# Altium integrated library TI_Logic_Little_Logic.IntLib: 1164 symbols (part 17 of 35)
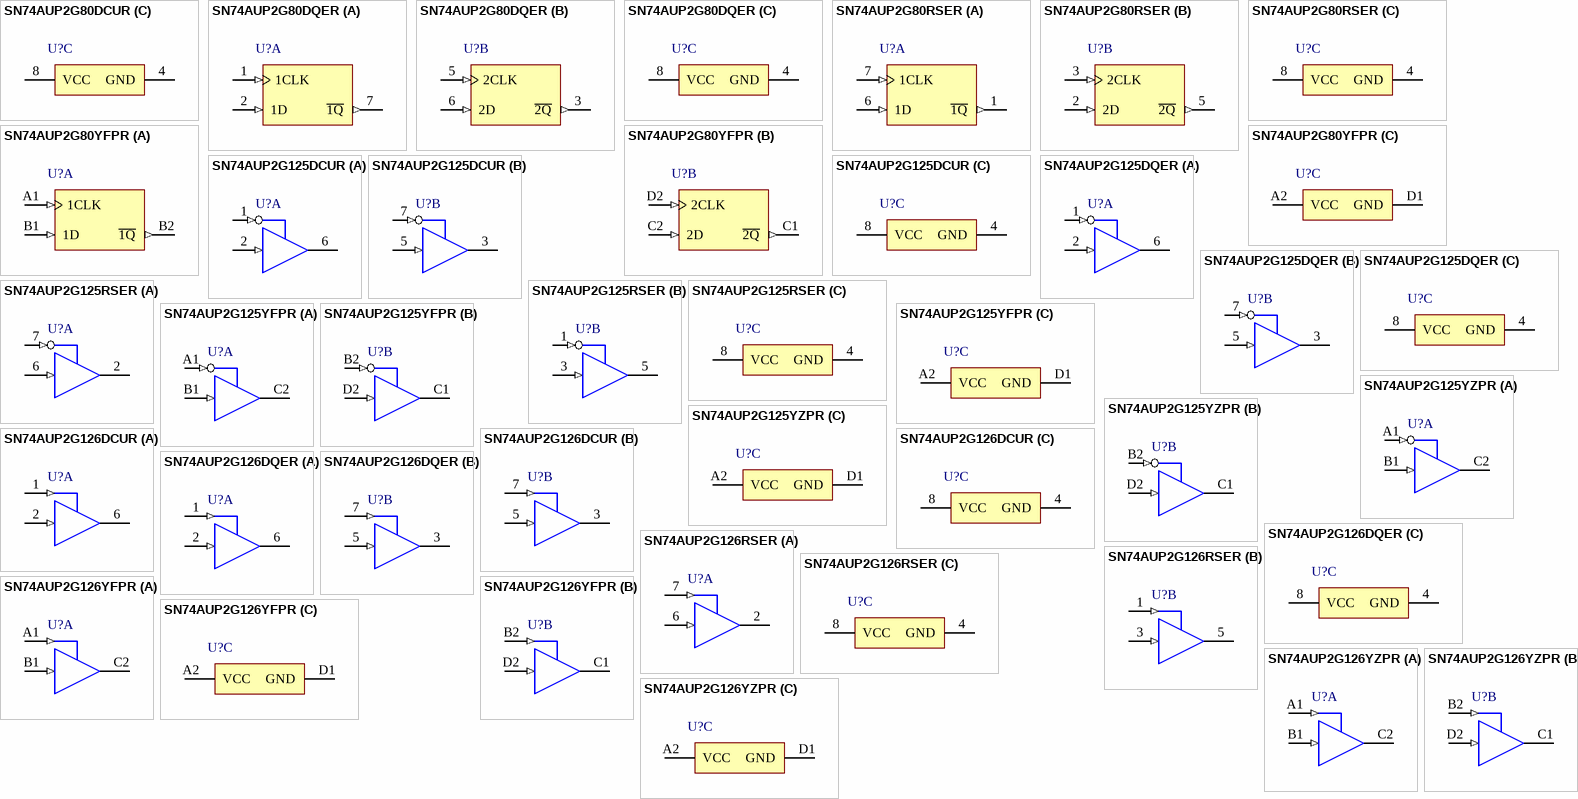
[diagram p76: symbols SN74AUP2G80DCUR to SN74AUP2G126YZPR]

## SN74AUP2G125YZPR
designator U?
Low-Power Dual Bus Buffer Gate With 3-State Outputs, YZP0008ADAD, LARGE T&R; Generic Part Number: SN74AUP2G125; Manufacturer: Texas Instruments; PartNumber: SN74AUP2G125YZPR; VCC(Min)(V): 0.8; VCC(Max)(V): 3.6; Output Type: CMOS; ICC @ Nom Voltage(Max)(mA): 0.0009; Bits(#): 2; F @ Nom Voltage(Max)(Mhz): 100; Rating: Catalog; Technology Family: AUP; Voltage(Nom)(V): 0.8,1.2,1.5,1.8,2.5,3.3; Schmitt Trigger: No; Output Drive (IOL/IOH)(Max)(mA): 20/-20; tpd @ Nom Voltage(Max)(ns): 37.9,30.2,17.2,13.0,8.3,6.5; Logic: True; Sub-Family: Non-Inverting Buffer/Driver; 3-State Output: Yes; DatasheetVersion: SCES688D; PackageReference: YZP0008ADAD; Supplier 1: Mouser; Supplier Part Number 1: 595-SN74AUP2G125YZPR; Supplier 2: Digi-Key; Supplier Part Number 2: 296-24456-2-ND; Supplier 3: Digi-Key; Supplier Part Number 3: 296-24456-1-ND; Supplier 4: Digi-Key; Supplier Part Number 4: 296-24456-6-ND; Input Type: CMOS; Operating Temperature Range(C): -40 to 85; ComponentLink1Description: Manufacturer URL; ComponentLink1URL: http://www.ti.com/; ComponentLink2Description: Datasheet; ComponentLink2URL: http://www.ti.com/lit/ds/symlink/sn74aup2g125.pdf
footprint YZP0008ADAD (BGA, 8-Balls, Body 1.89x0.89mm, Pitch 0.5mm)
part A pins: A1 1~{OE} (in) "Output Enable for buffer 1", B1 1A (in) "Input", C2 1Y (hiz) "Output"
part B pins: B2 2~{OE} (in) "Output Enable for buffer 2", C1 2Y (hiz) "Output", D2 2A (in) "Input"
part C pins: A2 VCC (power) "Power pin", D1 GND (power) "Ground"

## SN74AUP2G126DCUR
designator U?
Low-Power Dual Bus Buffer Gate With 3-State Outputs, DCU0008A, LARGE T&R; Generic Part Number: SN74AUP2G126; Manufacturer: Texas Instruments; PartNumber: SN74AUP2G126DCUR; VCC(Min)(V): 0.8; VCC(Max)(V): 3.6; Output Type: CMOS; ICC @ Nom Voltage(Max)(mA): 0.0009; Bits(#): 2; F @ Nom Voltage(Max)(Mhz): 100; Rating: Catalog; Technology Family: AUP; Voltage(Nom)(V): 0.8,1.2,1.5,1.8,2.5,3.3; Schmitt Trigger: No; Output Drive (IOL/IOH)(Max)(mA): 20/-20; tpd @ Nom Voltage(Max)(ns): 36.4,30.8,18,13.6,8.6,7.9; Logic: True; Sub-Family: Non-Inverting Buffer/Driver; 3-State Output: Yes; DatasheetVersion: SCES687D; PackageReference: DCU0008A; Supplier 1: Mouser; Supplier Part Number 1: 595-SN74AUP2G126DCUR; Supplier 2: Digi-Key; Supplier Part Number 2: 296-32273-2-ND; Supplier 3: Digi-Key; Supplier Part Number 3: 296-32273-1-ND; Supplier 4: Digi-Key; Supplier Part Number 4: 296-32273-6-ND; Input Type: CMOS; Operating Temperature Range(C): -40 to 85; ComponentLink1Description: Manufacturer URL; ComponentLink1URL: http://www.ti.com/; ComponentLink2Description: Datasheet; ComponentLink2URL: http://www.ti.com/lit/ds/symlink/sn74aup2g126.pdf
footprint DCU0008A_N (SOP, 8-Leads, Body 2.4x2.1mm, Pitch 0.5mm, IPC Medium Density)
footprint DCU0008A_M (SOP, 8-Leads, Body 2.4x2.1mm, Pitch 0.5mm, IPC Low Density)
footprint DCU0008A_L (SOP, 8-Leads, Body 2.4x2.1mm, Pitch 0.5mm, IPC High Density)
part A pins: 1 1OE (in), 2 1A (in), 6 1Y (hiz)
part B pins: 3 2Y (hiz), 5 2A (in), 7 2OE (in)
part C pins: 4 GND (power) "Ground Pin", 8 VCC (power) "Power Pin"

## SN74AUP2G126DQER
designator U?
Low-Power Dual Bus Buffer Gate With 3-State Outputs, DQE0008A, LARGE T&R; Generic Part Number: SN74AUP2G126; Manufacturer: Texas Instruments; PartNumber: SN74AUP2G126DQER; VCC(Min)(V): 0.8; VCC(Max)(V): 3.6; Output Type: CMOS; ICC @ Nom Voltage(Max)(mA): 0.0009; Bits(#): 2; F @ Nom Voltage(Max)(Mhz): 100; Rating: Catalog; Technology Family: AUP; Voltage(Nom)(V): 0.8,1.2,1.5,1.8,2.5,3.3; Schmitt Trigger: No; Output Drive (IOL/IOH)(Max)(mA): 20/-20; tpd @ Nom Voltage(Max)(ns): 36.4,30.8,18,13.6,8.6,7.9; Logic: True; Sub-Family: Non-Inverting Buffer/Driver; 3-State Output: Yes; DatasheetVersion: SCES687D; PackageReference: DQE0008A; Supplier 1: Mouser; Supplier Part Number 1: 595-SN74AUP2G126DQER; Supplier 2: Digi-Key; Supplier Part Number 2: 296-25639-2-ND; Supplier 3: Digi-Key; Supplier Part Number 3: 296-25639-1-ND; Supplier 4: Digi-Key; Supplier Part Number 4: 296-25639-6-ND; Input Type: CMOS; Operating Temperature Range(C): -40 to 85; ComponentLink1Description: Manufacturer URL; ComponentLink1URL: http://www.ti.com/; ComponentLink2Description: Datasheet; ComponentLink2URL: http://www.ti.com/lit/ds/symlink/sn74aup2g126.pdf
footprint DQE0008A_V (SON, 8-Leads, Body 1.4x1mm, Pitch 0.35mm, TI Recommend)
part A pins: 1 1OE (in), 2 1A (in), 6 1Y (hiz)
part B pins: 3 2Y (hiz), 5 2A (in), 7 2OE (in)
part C pins: 4 GND (power) "Ground Pin", 8 VCC (power) "Power Pin"

## SN74AUP2G126RSER
designator U?
Low-Power Dual Bus Buffer Gate With 3-State Outputs, RSE0008A, LARGE T&R; Generic Part Number: SN74AUP2G126; Manufacturer: Texas Instruments; PartNumber: SN74AUP2G126RSER; VCC(Min)(V): 0.8; VCC(Max)(V): 3.6; Output Type: CMOS; ICC @ Nom Voltage(Max)(mA): 0.0009; Bits(#): 2; F @ Nom Voltage(Max)(Mhz): 100; Rating: Catalog; Technology Family: AUP; Voltage(Nom)(V): 0.8,1.2,1.5,1.8,2.5,3.3; Schmitt Trigger: No; Output Drive (IOL/IOH)(Max)(mA): 20/-20; tpd @ Nom Voltage(Max)(ns): 36.4,30.8,18,13.6,8.6,7.9; Logic: True; Sub-Family: Non-Inverting Buffer/Driver; 3-State Output: Yes; DatasheetVersion: SCES687D; PackageReference: RSE0008A; Supplier 1: Mouser; Supplier Part Number 1: 595-SN74AUP2G126RSER; Supplier 2: Digi-Key; Supplier Part Number 2: 296-27495-2-ND; Supplier 3: Digi-Key; Supplier Part Number 3: 296-27495-1-ND; Supplier 4: Digi-Key; Supplier Part Number 4: 296-27495-6-ND; Input Type: CMOS; Operating Temperature Range(C): -40 to 85; ComponentLink1Description: Manufacturer URL; ComponentLink1URL: http://www.ti.com/; ComponentLink2Description: Datasheet; ComponentLink2URL: http://www.ti.com/lit/ds/symlink/sn74aup2g126.pdf
footprint RSE0008A_V (QFN, 8-Leads, Body 1.5x1.5mm, Pitch 0.5mm, TI Recommend)
part A pins: 2 1Y (hiz), 6 1A (in), 7 1OE (in)
part B pins: 1 2OE (in), 3 2A (in), 5 2Y (hiz)
part C pins: 4 GND (power), 8 VCC (power)

## SN74AUP2G126YFPR
designator U?
Low-Power Dual Bus Buffer Gate With 3-State Outputs, YZP0008AAAA, LARGE T&R; Generic Part Number: SN74AUP2G126; Manufacturer: Texas Instruments; PartNumber: SN74AUP2G126YFPR; VCC(Min)(V): 0.8; VCC(Max)(V): 3.6; Output Type: CMOS; ICC @ Nom Voltage(Max)(mA): 0.0009; Bits(#): 2; F @ Nom Voltage(Max)(Mhz): 100; Rating: Catalog; Technology Family: AUP; Voltage(Nom)(V): 0.8,1.2,1.5,1.8,2.5,3.3; Schmitt Trigger: No; Output Drive (IOL/IOH)(Max)(mA): 20/-20; tpd @ Nom Voltage(Max)(ns): 36.4,30.8,18,13.6,8.6,7.9; Logic: True; Sub-Family: Non-Inverting Buffer/Driver; 3-State Output: Yes; DatasheetVersion: SCES687D; PackageReference: YZP0008AAAA; Supplier 1: Mouser; Supplier Part Number 1: 595-SN74AUP2G126YFPR; Supplier 2: Digi-Key; Supplier Part Number 2: 296-24737-2-ND; Supplier 3: Digi-Key; Supplier Part Number 3: 296-24737-1-ND; Supplier 4: Digi-Key; Supplier Part Number 4: 296-24737-6-ND; Input Type: CMOS; Operating Temperature Range(C): -40 to 85; ComponentLink1Description: Manufacturer URL; ComponentLink1URL: http://www.ti.com/; ComponentLink2Description: Datasheet; ComponentLink2URL: http://www.ti.com/lit/ds/symlink/sn74aup2g126.pdf
footprint YZP0008AAAA (BGA, 8-Balls, Body 1.56x0.76mm, Pitch 0.4mm)
part A pins: A1 1OE (in) "1OE Enable/Input", B1 1A (in) "1A Input", C2 1Y (hiz) "1Y Output"
part B pins: B2 2OE (in) "2OE Enable/Input", C1 2Y (hiz) "2Y Output", D2 2A (in) "2A Input"
part C pins: A2 VCC (power) "Power Pin", D1 GND (power) "Ground Pin"

## SN74AUP2G126YZPR
designator U?
Low-Power Dual Bus Buffer Gate With 3-State Outputs, YZP0008ADAD, LARGE T&R; Generic Part Number: SN74AUP2G126; Manufacturer: Texas Instruments; PartNumber: SN74AUP2G126YZPR; VCC(Min)(V): 0.8; VCC(Max)(V): 3.6; Output Type: CMOS; ICC @ Nom Voltage(Max)(mA): 0.0009; Bits(#): 2; F @ Nom Voltage(Max)(Mhz): 100; Rating: Catalog; Technology Family: AUP; Voltage(Nom)(V): 0.8,1.2,1.5,1.8,2.5,3.3; Schmitt Trigger: No; Output Drive (IOL/IOH)(Max)(mA): 20/-20; tpd @ Nom Voltage(Max)(ns): 36.4,30.8,18,13.6,8.6,7.9; Logic: True; Sub-Family: Non-Inverting Buffer/Driver; 3-State Output: Yes; DatasheetVersion: SCES687D; PackageReference: YZP0008ADAD; Supplier 1: Mouser; Supplier Part Number 1: 595-SN74AUP2G126YZPR; Supplier 2: Digi-Key; Supplier Part Number 2: 296-24738-2-ND; Supplier 3: Digi-Key; Supplier Part Number 3: 296-24738-1-ND; Supplier 4: Digi-Key; Supplier Part Number 4: 296-24738-6-ND; Input Type: CMOS; Operating Temperature Range(C): -40 to 85; ComponentLink1Description: Manufacturer URL; ComponentLink1URL: http://www.ti.com/; ComponentLink2Description: Datasheet; ComponentLink2URL: http://www.ti.com/lit/ds/symlink/sn74aup2g126.pdf
footprint YZP0008ADAD (BGA, 8-Balls, Body 1.89x0.89mm, Pitch 0.5mm)
part A pins: A1 1OE (in) "1OE Enable/Input", B1 1A (in) "1A Input", C2 1Y (hiz) "1Y Output"
part B pins: B2 2OE (in) "2OE Enable/Input", C1 2Y (hiz) "2Y Output", D2 2A (in) "2A Input"
part C pins: A2 VCC (power) "Power Pin", D1 GND (power) "Ground Pin"

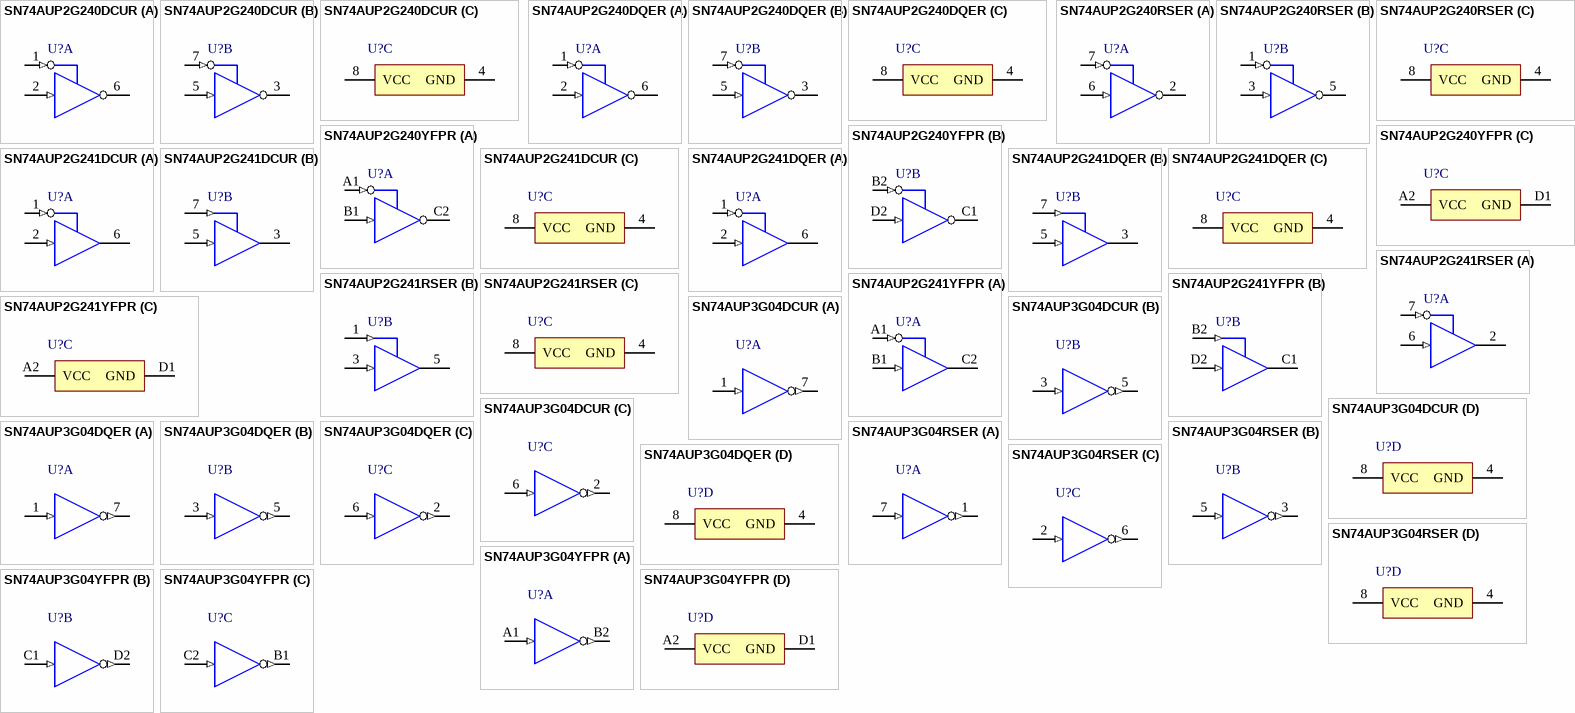
[diagram p28: symbols SN74AUP2G240DCUR to SN74AUP3G04YFPR]

## SN74AUP2G240DCUR
designator U?
Low-Power Dual Buffer/Driver With 3-State Outputs, DCU0008A, LARGE T&R; Generic Part Number: SN74AUP2G240; Manufacturer: Texas Instruments; PartNumber: SN74AUP2G240DCUR; VCC(Min)(V): 0.8; VCC(Max)(V): 3.6; Output Type: CMOS; ICC @ Nom Voltage(Max)(mA): 0.0009; Bits(#): 2; F @ Nom Voltage(Max)(Mhz): 100; Rating: Catalog; Technology Family: AUP; Voltage(Nom)(V): 0.8,1.2,1.5,1.8,2.5,3.3; Schmitt Trigger: No; Output Drive (IOL/IOH)(Max)(mA): 20/-20; tpd @ Nom Voltage(Max)(ns): 32.8,20.9,14.2,11,7.6,6.2; Logic: Inverting; Sub-Family: Inverting Buffer/Driver; 3-State Output: Yes; DatasheetVersion: SCES760B; PackageReference: DCU0008A; Supplier 1: Mouser; Supplier Part Number 1: 595-SN74AUP2G240DCUR; Supplier 2: Digi-Key; Supplier Part Number 2: 296-25593-2-ND; Supplier 3: Digi-Key; Supplier Part Number 3: 296-25593-1-ND; Supplier 4: Digi-Key; Supplier Part Number 4: 296-25593-6-ND; Input Type: CMOS; Operating Temperature Range(C): -40 to 85; ComponentLink1Description: Manufacturer URL; ComponentLink1URL: http://www.ti.com/; ComponentLink2Description: Datasheet; ComponentLink2URL: http://www.ti.com/lit/ds/symlink/sn74aup2g240.pdf
footprint DCU0008A_N (SOP, 8-Leads, Body 2.4x2.1mm, Pitch 0.5mm, IPC Medium Density)
footprint DCU0008A_M (SOP, 8-Leads, Body 2.4x2.1mm, Pitch 0.5mm, IPC Low Density)
footprint DCU0008A_L (SOP, 8-Leads, Body 2.4x2.1mm, Pitch 0.5mm, IPC High Density)
part A pins: 1 1~{OE} (in), 2 1A (in), 6 1Y (hiz)
part B pins: 3 2Y (hiz), 5 2A (in), 7 2~{OE} (in)
part C pins: 4 GND (power), 8 VCC (power)

## SN74AUP2G240DQER
designator U?
Low-Power Dual Buffer/Driver With 3-State Outputs, DQE0008A, LARGE T&R; Generic Part Number: SN74AUP2G240; Manufacturer: Texas Instruments; PartNumber: SN74AUP2G240DQER; VCC(Min)(V): 0.8; VCC(Max)(V): 3.6; Output Type: CMOS; ICC @ Nom Voltage(Max)(mA): 0.0009; Bits(#): 2; F @ Nom Voltage(Max)(Mhz): 100; Rating: Catalog; Technology Family: AUP; Voltage(Nom)(V): 0.8,1.2,1.5,1.8,2.5,3.3; Schmitt Trigger: No; Output Drive (IOL/IOH)(Max)(mA): 20/-20; tpd @ Nom Voltage(Max)(ns): 32.8,20.9,14.2,11,7.6,6.2; Logic: Inverting; Sub-Family: Inverting Buffer/Driver; 3-State Output: Yes; DatasheetVersion: SCES760B; PackageReference: DQE0008A; Supplier 1: Mouser; Supplier Part Number 1: 595-SN74AUP2G240DQER; Supplier 2: Digi-Key; Supplier Part Number 2: 296-25881-2-ND; Supplier 3: Digi-Key; Supplier Part Number 3: 296-25881-1-ND; Supplier 4: Digi-Key; Supplier Part Number 4: 296-25881-6-ND; Input Type: CMOS; Operating Temperature Range(C): -40 to 85; ComponentLink1Description: Manufacturer URL; ComponentLink1URL: http://www.ti.com/; ComponentLink2Description: Datasheet; ComponentLink2URL: http://www.ti.com/lit/ds/symlink/sn74aup2g240.pdf
footprint DQE0008A_V (SON, 8-Leads, Body 1.4x1mm, Pitch 0.35mm, TI Recommend)
part A pins: 1 1~{OE} (in), 2 1A (in), 6 1Y (hiz)
part B pins: 3 2Y (hiz), 5 2A (in), 7 2~{OE} (in)
part C pins: 4 GND (power), 8 VCC (power)

## SN74AUP2G240RSER
designator U?
Low-Power Dual Buffer/Driver With 3-State Outputs, RSE0008A, LARGE T&R; Generic Part Number: SN74AUP2G240; Manufacturer: Texas Instruments; PartNumber: SN74AUP2G240RSER; VCC(Min)(V): 0.8; VCC(Max)(V): 3.6; Output Type: CMOS; ICC @ Nom Voltage(Max)(mA): 0.0009; Bits(#): 2; F @ Nom Voltage(Max)(Mhz): 100; Rating: Catalog; Technology Family: AUP; Voltage(Nom)(V): 0.8,1.2,1.5,1.8,2.5,3.3; Schmitt Trigger: No; Output Drive (IOL/IOH)(Max)(mA): 20/-20; tpd @ Nom Voltage(Max)(ns): 32.8,20.9,14.2,11,7.6,6.2; Logic: Inverting; Sub-Family: Inverting Buffer/Driver; 3-State Output: Yes; DatasheetVersion: SCES760B; PackageReference: RSE0008A; Supplier 1: Mouser; Supplier Part Number 1: 595-SN74AUP2G240RSER; Supplier 2: Digi-Key; Supplier Part Number 2: 296-27367-2-ND; Supplier 3: Digi-Key; Supplier Part Number 3: 296-27367-1-ND; Supplier 4: Digi-Key; Supplier Part Number 4: 296-27367-6-ND; Input Type: CMOS; Operating Temperature Range(C): -40 to 85; ComponentLink1Description: Manufacturer URL; ComponentLink1URL: http://www.ti.com/; ComponentLink2Description: Datasheet; ComponentLink2URL: http://www.ti.com/lit/ds/symlink/sn74aup2g240.pdf
footprint RSE0008A_V (QFN, 8-Leads, Body 1.5x1.5mm, Pitch 0.5mm, TI Recommend)
part A pins: 2 1Y (hiz), 6 1A (in), 7 1~{OE} (in)
part B pins: 1 2~{OE} (in), 3 2A (in), 5 2Y (hiz)
part C pins: 4 GND (power), 8 VCC (power)

## SN74AUP2G240YFPR
designator U?
Low-Power Dual Buffer/Driver With 3-State Outputs, YZP0008AAAA, LARGE T&R; Generic Part Number: SN74AUP2G240; Manufacturer: Texas Instruments; PartNumber: SN74AUP2G240YFPR; VCC(Min)(V): 0.8; VCC(Max)(V): 3.6; Output Type: CMOS; ICC @ Nom Voltage(Max)(mA): 0.0009; Bits(#): 2; F @ Nom Voltage(Max)(Mhz): 100; Rating: Catalog; Technology Family: AUP; Voltage(Nom)(V): 0.8,1.2,1.5,1.8,2.5,3.3; Schmitt Trigger: No; Output Drive (IOL/IOH)(Max)(mA): 20/-20; tpd @ Nom Voltage(Max)(ns): 32.8,20.9,14.2,11,7.6,6.2; Logic: Inverting; Sub-Family: Inverting Buffer/Driver; 3-State Output: Yes; DatasheetVersion: SCES760B; PackageReference: YZP0008AAAA; Supplier 1: Mouser; Supplier Part Number 1: 595-SN74AUP2G240YFPR; Supplier 2: Digi-Key; Supplier Part Number 2: 296-25871-2-ND; Supplier 3: Digi-Key; Supplier Part Number 3: 296-25871-1-ND; Supplier 4: Digi-Key; Supplier Part Number 4: 296-25871-6-ND; Input Type: CMOS; Operating Temperature Range(C): -40 to 85; ComponentLink1Description: Manufacturer URL; ComponentLink1URL: http://www.ti.com/; ComponentLink2Description: Datasheet; ComponentLink2URL: http://www.ti.com/lit/ds/symlink/sn74aup2g240.pdf
footprint YZP0008AAAA (BGA, 8-Balls, Body 1.56x0.76mm, Pitch 0.4mm)
part A pins: A1 1~{OE} (in), B1 1A (in), C2 1Y (hiz)
part B pins: B2 2~{OE} (in), C1 2Y (hiz), D2 2A (in)
part C pins: A2 VCC (power), D1 GND (power)

## SN74AUP2G241DCUR
designator U?
Low-Power Dual Buffer/Driver With 3-State Outputs, DCU0008A, LARGE T&R; Generic Part Number: SN74AUP2G241; Manufacturer: Texas Instruments; PartNumber: SN74AUP2G241DCUR; VCC(Min)(V): 0.8; VCC(Max)(V): 3.6; Output Type: CMOS; ICC @ Nom Voltage(Max)(mA): 0.0009; Bits(#): 2; F @ Nom Voltage(Max)(Mhz): 100; Rating: Catalog; Technology Family: AUP; Voltage(Nom)(V): 0.8,1.2,1.5,1.8,2.5,3.3; Schmitt Trigger: No; Output Drive (IOL/IOH)(Max)(mA): 20/-20; tpd @ Nom Voltage(Max)(ns): 36.4,30.8,18,13.6,8.6,7.9; Logic: True; Sub-Family: Non-Inverting Buffer/Driver; 3-State Output: Yes; DatasheetVersion: SCES761B; PackageReference: DCU0008A; Supplier 1: Mouser; Supplier Part Number 1: 595-SN74AUP2G241DCUR; Supplier 2: Digi-Key; Supplier Part Number 2: 296-25597-2-ND; Supplier 3: Digi-Key; Supplier Part Number 3: 296-25597-1-ND; Supplier 4: Digi-Key; Supplier Part Number 4: 296-25597-6-ND; Input Type: CMOS; Operating Temperature Range(C): -40 to 85; ComponentLink1Description: Manufacturer URL; ComponentLink1URL: http://www.ti.com/; ComponentLink2Description: Datasheet; ComponentLink2URL: http://www.ti.com/lit/ds/symlink/sn74aup2g241.pdf
footprint DCU0008A_N (SOP, 8-Leads, Body 2.4x2.1mm, Pitch 0.5mm, IPC Medium Density)
footprint DCU0008A_M (SOP, 8-Leads, Body 2.4x2.1mm, Pitch 0.5mm, IPC Low Density)
footprint DCU0008A_L (SOP, 8-Leads, Body 2.4x2.1mm, Pitch 0.5mm, IPC High Density)
part A pins: 1 1~{OE} (in), 2 1A (in), 6 1Y (hiz)
part B pins: 3 2Y (hiz), 5 2A (in), 7 2OE (in)
part C pins: 4 GND (power), 8 VCC (power)

## SN74AUP2G241DQER
designator U?
Low-Power Dual Buffer/Driver With 3-State Outputs, DQE0008A, LARGE T&R; Generic Part Number: SN74AUP2G241; Manufacturer: Texas Instruments; PartNumber: SN74AUP2G241DQER; VCC(Min)(V): 0.8; VCC(Max)(V): 3.6; Output Type: CMOS; ICC @ Nom Voltage(Max)(mA): 0.0009; Bits(#): 2; F @ Nom Voltage(Max)(Mhz): 100; Rating: Catalog; Technology Family: AUP; Voltage(Nom)(V): 0.8,1.2,1.5,1.8,2.5,3.3; Schmitt Trigger: No; Output Drive (IOL/IOH)(Max)(mA): 20/-20; tpd @ Nom Voltage(Max)(ns): 36.4,30.8,18,13.6,8.6,7.9; Logic: True; Sub-Family: Non-Inverting Buffer/Driver; 3-State Output: Yes; DatasheetVersion: SCES761B; PackageReference: DQE0008A; Supplier 1: Mouser; Supplier Part Number 1: 595-SN74AUP2G241DQER; Supplier 2: Digi-Key; Supplier Part Number 2: 296-32274-2-ND; Supplier 3: Digi-Key; Supplier Part Number 3: 296-32274-1-ND; Supplier 4: Digi-Key; Supplier Part Number 4: 296-32274-6-ND; Input Type: CMOS; Operating Temperature Range(C): -40 to 85; ComponentLink1Description: Manufacturer URL; ComponentLink1URL: http://www.ti.com/; ComponentLink2Description: Datasheet; ComponentLink2URL: http://www.ti.com/lit/ds/symlink/sn74aup2g241.pdf
footprint DQE0008A_V (SON, 8-Leads, Body 1.4x1mm, Pitch 0.35mm, TI Recommend)
part A pins: 1 1~{OE} (in), 2 1A (in), 6 1Y (hiz)
part B pins: 3 2Y (hiz), 5 2A (in), 7 2OE (in)
part C pins: 4 GND (power), 8 VCC (power)

## SN74AUP2G241RSER
designator U?
Low-Power Dual Buffer/Driver With 3-State Outputs, RSE0008A, LARGE T&R; Generic Part Number: SN74AUP2G241; Manufacturer: Texas Instruments; PartNumber: SN74AUP2G241RSER; VCC(Min)(V): 0.8; VCC(Max)(V): 3.6; Output Type: CMOS; ICC @ Nom Voltage(Max)(mA): 0.0009; Bits(#): 2; F @ Nom Voltage(Max)(Mhz): 100; Rating: Catalog; Technology Family: AUP; Voltage(Nom)(V): 0.8,1.2,1.5,1.8,2.5,3.3; Schmitt Trigger: No; Output Drive (IOL/IOH)(Max)(mA): 20/-20; tpd @ Nom Voltage(Max)(ns): 36.4,30.8,18,13.6,8.6,7.9; Logic: True; Sub-Family: Non-Inverting Buffer/Driver; 3-State Output: Yes; DatasheetVersion: SCES761B; PackageReference: RSE0008A; Supplier 1: Mouser; Supplier Part Number 1: 595-SN74AUP2G241RSER; Supplier 2: Digi-Key; Supplier Part Number 2: 296-27368-2-ND; Supplier 3: Digi-Key; Supplier Part Number 3: 296-27368-1-ND; Supplier 4: Digi-Key; Supplier Part Number 4: 296-27368-6-ND; Input Type: CMOS; Operating Temperature Range(C): -40 to 85; ComponentLink1Description: Manufacturer URL; ComponentLink1URL: http://www.ti.com/; ComponentLink2Description: Datasheet; ComponentLink2URL: http://www.ti.com/lit/ds/symlink/sn74aup2g241.pdf
footprint RSE0008A_V (QFN, 8-Leads, Body 1.5x1.5mm, Pitch 0.5mm, TI Recommend)
part A pins: 2 1Y (hiz), 6 1A (in), 7 1~{OE} (in)
part B pins: 1 2OE (in), 3 2A (in), 5 2Y (hiz)
part C pins: 4 GND (power), 8 VCC (power)

## SN74AUP2G241YFPR
designator U?
Low-Power Dual Buffer/Driver With 3-State Outputs, YZP0008AAAA, LARGE T&R; Generic Part Number: SN74AUP2G241; Manufacturer: Texas Instruments; PartNumber: SN74AUP2G241YFPR; VCC(Min)(V): 0.8; VCC(Max)(V): 3.6; Output Type: CMOS; ICC @ Nom Voltage(Max)(mA): 0.0009; Bits(#): 2; F @ Nom Voltage(Max)(Mhz): 100; Rating: Catalog; Technology Family: AUP; Voltage(Nom)(V): 0.8,1.2,1.5,1.8,2.5,3.3; Schmitt Trigger: No; Output Drive (IOL/IOH)(Max)(mA): 20/-20; tpd @ Nom Voltage(Max)(ns): 36.4,30.8,18,13.6,8.6,7.9; Logic: True; Sub-Family: Non-Inverting Buffer/Driver; 3-State Output: Yes; DatasheetVersion: SCES761B; PackageReference: YZP0008AAAA; Supplier 1: Mouser; Supplier Part Number 1: 595-SN74AUP2G241YFPR; Supplier 2: Digi-Key; Supplier Part Number 2: 296-25872-2-ND; Supplier 3: Digi-Key; Supplier Part Number 3: 296-25872-1-ND; Supplier 4: Digi-Key; Supplier Part Number 4: 296-25872-6-ND; Input Type: CMOS; Operating Temperature Range(C): -40 to 85; ComponentLink1Description: Manufacturer URL; ComponentLink1URL: http://www.ti.com/; ComponentLink2Description: Datasheet; ComponentLink2URL: http://www.ti.com/lit/ds/symlink/sn74aup2g241.pdf
footprint YZP0008AAAA (BGA, 8-Balls, Body 1.56x0.76mm, Pitch 0.4mm)
part A pins: A1 1~{OE} (in), B1 1A (in), C2 1Y (hiz)
part B pins: B2 2OE (in), C1 2Y (hiz), D2 2A (in)
part C pins: A2 VCC (power), D1 GND (power)

## SN74AUP3G04DCUR
designator U?
Low-Power Triple Inverter Gate, DCU0008A, LARGE T&R; Generic Part Number: SN74AUP3G04; Manufacturer: Texas Instruments; PartNumber: SN74AUP3G04DCUR; VCC(Min)(V): 0.8; VCC(Max)(V): 3.6; Output Type: CMOS; ICC @ Nom Voltage(Max)(mA): 0.0009; Bits(#): 3; F @ Nom Voltage(Max)(Mhz): 100; Rating: Catalog; Technology Family: AUP; Voltage(Nom)(V): 0.8,1.2,1.5,1.8,2.5,3.3; Schmitt Trigger: No; Output Drive (IOL/IOH)(Max)(mA): 20/-20; tpd @ Nom Voltage(Max)(ns): 32.8,20.9,14.2,11,7.6,6.2; Logic: Inverting; Sub-Family: Inverting Buffer/Driver; DatasheetVersion: SCES762C; PackageReference: DCU0008A; Supplier 1: Mouser; Supplier Part Number 1: 595-SN74AUP3G04DCUR; Supplier 2: Digi-Key; Supplier Part Number 2: 296-25600-2-ND; Supplier 3: Digi-Key; Supplier Part Number 3: 296-25600-1-ND; Supplier 4: Digi-Key; Supplier Part Number 4: 296-25600-6-ND; Input Type: CMOS; Operating Temperature Range(C): -40 to 85; 3-State Output: No; ComponentLink1Description: Manufacturer URL; ComponentLink1URL: http://www.ti.com/; ComponentLink2Description: Datasheet; ComponentLink2URL: http://www.ti.com/lit/ds/symlink/sn74aup3g04.pdf
footprint DCU0008A_N (SOP, 8-Leads, Body 2.4x2.1mm, Pitch 0.5mm, IPC Medium Density)
footprint DCU0008A_M (SOP, 8-Leads, Body 2.4x2.1mm, Pitch 0.5mm, IPC Low Density)
footprint DCU0008A_L (SOP, 8-Leads, Body 2.4x2.1mm, Pitch 0.5mm, IPC High Density)
part A pins: 1 1A (in), 7 1Y (out)
part B pins: 3 2A (in), 5 2Y (out)
part C pins: 2 3Y (out), 6 3A (in)
part D pins: 4 GND (power), 8 VCC (power)

## SN74AUP3G04DQER
designator U?
Low-Power Triple Inverter Gate, DQE0008A, LARGE T&R; Generic Part Number: SN74AUP3G04; Manufacturer: Texas Instruments; PartNumber: SN74AUP3G04DQER; VCC(Min)(V): 0.8; VCC(Max)(V): 3.6; Output Type: CMOS; ICC @ Nom Voltage(Max)(mA): 0.0009; Bits(#): 3; F @ Nom Voltage(Max)(Mhz): 100; Rating: Catalog; Technology Family: AUP; Voltage(Nom)(V): 0.8,1.2,1.5,1.8,2.5,3.3; Schmitt Trigger: No; Output Drive (IOL/IOH)(Max)(mA): 20/-20; tpd @ Nom Voltage(Max)(ns): 32.8,20.9,14.2,11,7.6,6.2; Logic: Inverting; Sub-Family: Inverting Buffer/Driver; DatasheetVersion: SCES762C; PackageReference: DQE0008A; Supplier 1: Mouser; Supplier Part Number 1: 595-SN74AUP3G04DQER; Supplier 2: Digi-Key; Supplier Part Number 2: 296-25621-2-ND; Supplier 3: Digi-Key; Supplier Part Number 3: 296-25621-1-ND; Supplier 4: Digi-Key; Supplier Part Number 4: 296-25621-6-ND; Input Type: CMOS; Operating Temperature Range(C): -40 to 85; 3-State Output: No; ComponentLink1Description: Manufacturer URL; ComponentLink1URL: http://www.ti.com/; ComponentLink2Description: Datasheet; ComponentLink2URL: http://www.ti.com/lit/ds/symlink/sn74aup3g04.pdf
footprint DQE0008A_V (SON, 8-Leads, Body 1.4x1mm, Pitch 0.35mm, TI Recommend)
part A pins: 1 1A (in), 7 1Y (out)
part B pins: 3 2A (in), 5 2Y (out)
part C pins: 2 3Y (out), 6 3A (in)
part D pins: 4 GND (power), 8 VCC (power)

## SN74AUP3G04RSER
designator U?
Low-Power Triple Inverter Gate, RSE0008A, LARGE T&R; Generic Part Number: SN74AUP3G04; Manufacturer: Texas Instruments; PartNumber: SN74AUP3G04RSER; VCC(Min)(V): 0.8; VCC(Max)(V): 3.6; Output Type: CMOS; ICC @ Nom Voltage(Max)(mA): 0.0009; Bits(#): 3; F @ Nom Voltage(Max)(Mhz): 100; Rating: Catalog; Technology Family: AUP; Voltage(Nom)(V): 0.8,1.2,1.5,1.8,2.5,3.3; Schmitt Trigger: No; Output Drive (IOL/IOH)(Max)(mA): 20/-20; tpd @ Nom Voltage(Max)(ns): 32.8,20.9,14.2,11,7.6,6.2; Logic: Inverting; Sub-Family: Inverting Buffer/Driver; DatasheetVersion: SCES762C; PackageReference: RSE0008A; Supplier 1: Mouser; Supplier Part Number 1: 595-SN74AUP3G04RSER; Supplier 2: Digi-Key; Supplier Part Number 2: 296-27498-2-ND; Supplier 3: Digi-Key; Supplier Part Number 3: 296-27498-1-ND; Supplier 4: Digi-Key; Supplier Part Number 4: 296-27498-6-ND; Input Type: CMOS; Operating Temperature Range(C): -40 to 85; 3-State Output: No; ComponentLink1Description: Manufacturer URL; ComponentLink1URL: http://www.ti.com/; ComponentLink2Description: Datasheet; ComponentLink2URL: http://www.ti.com/lit/ds/symlink/sn74aup3g04.pdf
footprint RSE0008A_V (QFN, 8-Leads, Body 1.5x1.5mm, Pitch 0.5mm, TI Recommend)
part A pins: 1 1Y (out), 7 1A (in)
part B pins: 3 2Y (out), 5 2A (in)
part C pins: 2 3A (in), 6 3Y (out)
part D pins: 4 GND (power), 8 VCC (power)

## SN74AUP3G04YFPR
designator U?
Low-Power Triple Inverter Gate, YZP0008AAAA, LARGE T&R; Generic Part Number: SN74AUP3G04; Manufacturer: Texas Instruments; PartNumber: SN74AUP3G04YFPR; VCC(Min)(V): 0.8; VCC(Max)(V): 3.6; Output Type: CMOS; ICC @ Nom Voltage(Max)(mA): 0.0009; Bits(#): 3; F @ Nom Voltage(Max)(Mhz): 100; Rating: Catalog; Technology Family: AUP; Voltage(Nom)(V): 0.8,1.2,1.5,1.8,2.5,3.3; Schmitt Trigger: No; Output Drive (IOL/IOH)(Max)(mA): 20/-20; tpd @ Nom Voltage(Max)(ns): 32.8,20.9,14.2,11,7.6,6.2; Logic: Inverting; Sub-Family: Inverting Buffer/Driver; DatasheetVersion: SCES762C; PackageReference: YZP0008AAAA; Supplier 1: Mouser; Supplier Part Number 1: 595-SN74AUP3G04YFPR; Supplier 2: Digi-Key; Supplier Part Number 2: 296-25876-2-ND; Supplier 3: Digi-Key; Supplier Part Number 3: 296-25876-1-ND; Supplier 4: Digi-Key; Supplier Part Number 4: 296-25876-6-ND; Input Type: CMOS; Operating Temperature Range(C): -40 to 85; 3-State Output: No; ComponentLink1Description: Manufacturer URL; ComponentLink1URL: http://www.ti.com/; ComponentLink2Description: Datasheet; ComponentLink2URL: http://www.ti.com/lit/ds/symlink/sn74aup3g04.pdf
footprint YZP0008AAAA (BGA, 8-Balls, Body 1.56x0.76mm, Pitch 0.4mm)
part A pins: A1 1A (in), B2 1Y (out)
part B pins: C1 2A (in), D2 2Y (out)
part C pins: B1 3Y (out), C2 3A (in)
part D pins: A2 VCC (power), D1 GND (power)

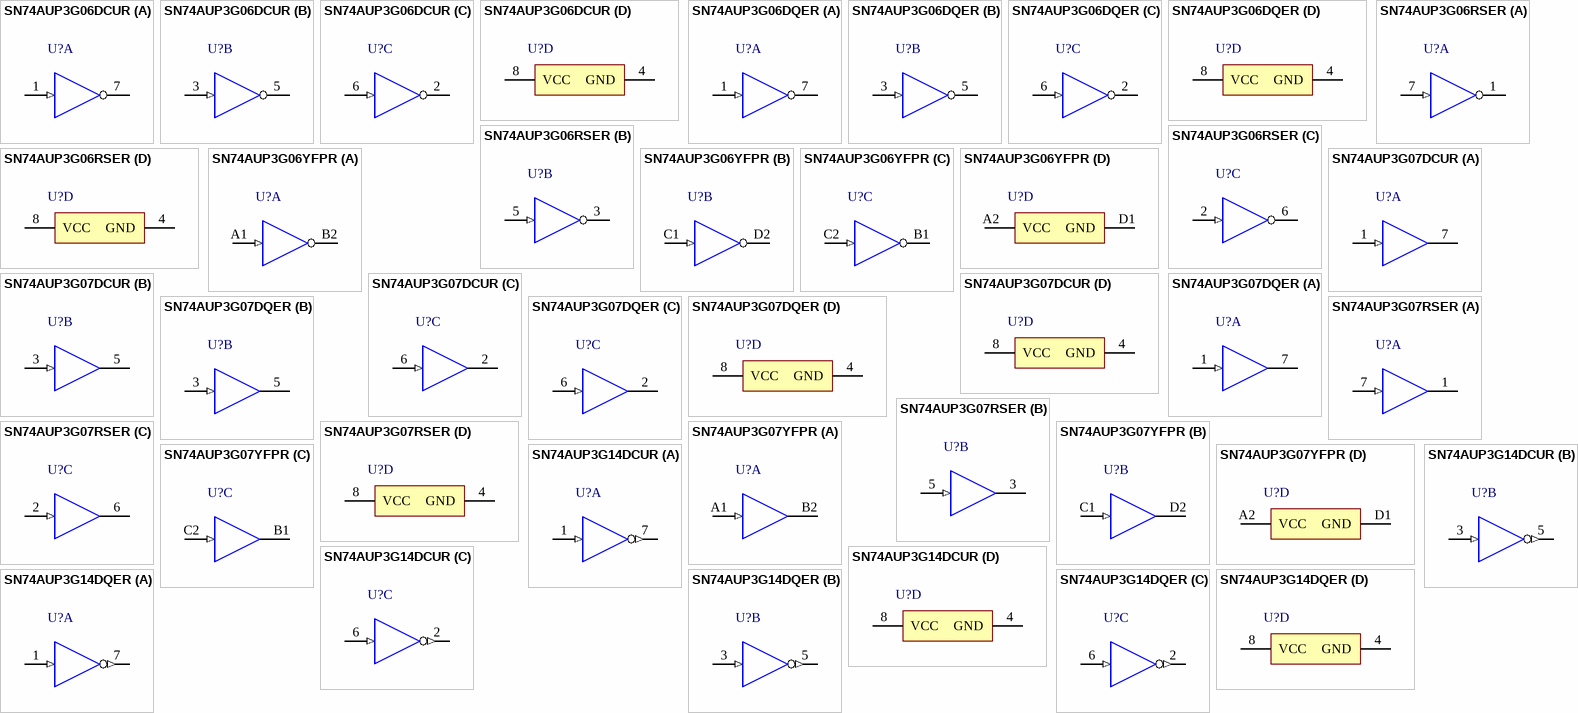
[diagram p29: symbols SN74AUP3G06DCUR to SN74AUP3G14DQER]

## SN74AUP3G06DCUR
designator U?
Low-Power Triple Inverter Buffer/Driver With Open-Drain Outputs, DCU0008A, LARGE T&R; Generic Part Number: SN74AUP3G06; Manufacturer: Texas Instruments; PartNumber: SN74AUP3G06DCUR; VCC(Min)(V): 0.8; VCC(Max)(V): 3.6; Output Type: CMOS; ICC @ Nom Voltage(Max)(mA): 0.0009; Bits(#): 3; F @ Nom Voltage(Max)(Mhz): 100; Rating: Catalog; Technology Family: AUP; Voltage(Nom)(V): 0.8,1.2,1.5,1.8,2.5,3.3; Schmitt Trigger: No; Output Drive (IOL/IOH)(Max)(mA): 20/-20; tpd @ Nom Voltage(Max)(ns): 25.3,16,12.3,10.7,7.1,10.5; Logic: Inverting; Sub-Family: Non-Inverting Buffer/Driver; DatasheetVersion: SCES775B; PackageReference: DCU0008A; Supplier 1: Mouser; Supplier Part Number 1: 595-SN74AUP3G06DCUR; Supplier 2: Digi-Key; Supplier Part Number 2: 296-25601-2-ND; Supplier 3: Digi-Key; Supplier Part Number 3: 296-25601-1-ND; Supplier 4: Digi-Key; Supplier Part Number 4: 296-25601-6-ND; Input Type: CMOS; Operating Temperature Range(C): -40 to 85; 3-State Output: No; ComponentLink1Description: Manufacturer URL; ComponentLink1URL: http://www.ti.com/; ComponentLink2Description: Datasheet; ComponentLink2URL: http://www.ti.com/lit/ds/symlink/sn74aup3g06.pdf
footprint DCU0008A_N (SOP, 8-Leads, Body 2.4x2.1mm, Pitch 0.5mm, IPC Medium Density)
footprint DCU0008A_M (SOP, 8-Leads, Body 2.4x2.1mm, Pitch 0.5mm, IPC Low Density)
footprint DCU0008A_L (SOP, 8-Leads, Body 2.4x2.1mm, Pitch 0.5mm, IPC High Density)
part A pins: 1 1A (in), 7 1Y (oc)
part B pins: 3 2A (in), 5 2Y (oc)
part C pins: 2 3Y (oc), 6 3A (in)
part D pins: 4 GND (power), 8 VCC (power)

## SN74AUP3G06DQER
designator U?
Low-Power Triple Inverter Buffer/Driver With Open-Drain Outputs, DQE0008A, LARGE T&R; Generic Part Number: SN74AUP3G06; Manufacturer: Texas Instruments; PartNumber: SN74AUP3G06DQER; VCC(Min)(V): 0.8; VCC(Max)(V): 3.6; Output Type: CMOS; ICC @ Nom Voltage(Max)(mA): 0.0009; Bits(#): 3; F @ Nom Voltage(Max)(Mhz): 100; Rating: Catalog; Technology Family: AUP; Voltage(Nom)(V): 0.8,1.2,1.5,1.8,2.5,3.3; Schmitt Trigger: No; Output Drive (IOL/IOH)(Max)(mA): 20/-20; tpd @ Nom Voltage(Max)(ns): 25.3,16,12.3,10.7,7.1,10.5; Logic: Inverting; Sub-Family: Non-Inverting Buffer/Driver; DatasheetVersion: SCES775B; PackageReference: DQE0008A; Supplier 1: Mouser; Supplier Part Number 1: 595-SN74AUP3G06DQER; Supplier 2: Digi-Key; Supplier Part Number 2: 296-25622-2-ND; Supplier 3: Digi-Key; Supplier Part Number 3: 296-25622-1-ND; Supplier 4: Digi-Key; Supplier Part Number 4: 296-25622-6-ND; Input Type: CMOS; Operating Temperature Range(C): -40 to 85; 3-State Output: No; ComponentLink1Description: Manufacturer URL; ComponentLink1URL: http://www.ti.com/; ComponentLink2Description: Datasheet; ComponentLink2URL: http://www.ti.com/lit/ds/symlink/sn74aup3g06.pdf
footprint DQE0008A_V (SON, 8-Leads, Body 1.4x1mm, Pitch 0.35mm, TI Recommend)
part A pins: 1 1A (in), 7 1Y (oc)
part B pins: 3 2A (in), 5 2Y (oc)
part C pins: 2 3Y (oc), 6 3A (in)
part D pins: 4 GND (power), 8 VCC (power)

## SN74AUP3G06RSER
designator U?
Low-Power Triple Inverter Buffer/Driver With Open-Drain Outputs, RSE0008A, LARGE T&R; Generic Part Number: SN74AUP3G06; Manufacturer: Texas Instruments; PartNumber: SN74AUP3G06RSER; VCC(Min)(V): 0.8; VCC(Max)(V): 3.6; Output Type: CMOS; ICC @ Nom Voltage(Max)(mA): 0.0009; Bits(#): 3; F @ Nom Voltage(Max)(Mhz): 100; Rating: Catalog; Technology Family: AUP; Voltage(Nom)(V): 0.8,1.2,1.5,1.8,2.5,3.3; Schmitt Trigger: No; Output Drive (IOL/IOH)(Max)(mA): 20/-20; tpd @ Nom Voltage(Max)(ns): 25.3,16,12.3,10.7,7.1,10.5; Logic: Inverting; Sub-Family: Non-Inverting Buffer/Driver; DatasheetVersion: SCES775B; PackageReference: RSE0008A; Supplier 1: Mouser; Supplier Part Number 1: 595-SN74AUP3G06RSER; Supplier 2: Digi-Key; Supplier Part Number 2: 296-27499-2-ND; Supplier 3: Digi-Key; Supplier Part Number 3: 296-27499-1-ND; Supplier 4: Digi-Key; Supplier Part Number 4: 296-27499-6-ND; Input Type: CMOS; Operating Temperature Range(C): -40 to 85; 3-State Output: No; ComponentLink1Description: Manufacturer URL; ComponentLink1URL: http://www.ti.com/; ComponentLink2Description: Datasheet; ComponentLink2URL: http://www.ti.com/lit/ds/symlink/sn74aup3g06.pdf
footprint RSE0008A_V (QFN, 8-Leads, Body 1.5x1.5mm, Pitch 0.5mm, TI Recommend)
part A pins: 1 1Y (oc), 7 1A (in)
part B pins: 3 2Y (oc), 5 2A (in)
part C pins: 2 3A (in), 6 3Y (oc)
part D pins: 4 GND (power), 8 VCC (power)

## SN74AUP3G06YFPR
designator U?
Low-Power Triple Inverter Buffer/Driver With Open-Drain Outputs, YZP0008AAAA, LARGE T&R; Generic Part Number: SN74AUP3G06; Manufacturer: Texas Instruments; PartNumber: SN74AUP3G06YFPR; VCC(Min)(V): 0.8; VCC(Max)(V): 3.6; Output Type: CMOS; ICC @ Nom Voltage(Max)(mA): 0.0009; Bits(#): 3; F @ Nom Voltage(Max)(Mhz): 100; Rating: Catalog; Technology Family: AUP; Voltage(Nom)(V): 0.8,1.2,1.5,1.8,2.5,3.3; Schmitt Trigger: No; Output Drive (IOL/IOH)(Max)(mA): 20/-20; tpd @ Nom Voltage(Max)(ns): 25.3,16,12.3,10.7,7.1,10.5; Logic: Inverting; Sub-Family: Non-Inverting Buffer/Driver; DatasheetVersion: SCES775B; PackageReference: YZP0008AAAA; Supplier 1: Mouser; Supplier Part Number 1: 595-SN74AUP3G06YFPR; Supplier 2: Digi-Key; Supplier Part Number 2: 296-25877-2-ND; Supplier 3: Digi-Key; Supplier Part Number 3: 296-25877-1-ND; Supplier 4: Digi-Key; Supplier Part Number 4: 296-25877-6-ND; Input Type: CMOS; Operating Temperature Range(C): -40 to 85; 3-State Output: No; ComponentLink1Description: Manufacturer URL; ComponentLink1URL: http://www.ti.com/; ComponentLink2Description: Datasheet; ComponentLink2URL: http://www.ti.com/lit/ds/symlink/sn74aup3g06.pdf
footprint YZP0008AAAA (BGA, 8-Balls, Body 1.56x0.76mm, Pitch 0.4mm)
part A pins: A1 1A (in), B2 1Y (oc)
part B pins: C1 2A (in), D2 2Y (oc)
part C pins: B1 3Y (oc), C2 3A (in)
part D pins: A2 VCC (power), D1 GND (power)

## SN74AUP3G07DCUR
designator U?
Low-Power Triple Inverter Buffer/Driver With Open-Drain Outputs, DCU0008A, LARGE T&R; Generic Part Number: SN74AUP3G07; Manufacturer: Texas Instruments; PartNumber: SN74AUP3G07DCUR; VCC(Min)(V): 0.8; VCC(Max)(V): 3.6; Output Type: CMOS; ICC @ Nom Voltage(Max)(mA): 0.0009; Bits(#): 3; F @ Nom Voltage(Max)(Mhz): 100; Rating: Catalog; Technology Family: AUP; Voltage(Nom)(V): 0.8,1.2,1.5,1.8,2.5,3.3; Schmitt Trigger: No; Output Drive (IOL/IOH)(Max)(mA): 20/-20; tpd @ Nom Voltage(Max)(ns): 26.5,14.4,12.3,9.7,6.7,9.7; Logic: True; Sub-Family: Non-Inverting Buffer/Driver; DatasheetVersion: SCES780C; PackageReference: DCU0008A; Supplier 1: Mouser; Supplier Part Number 1: 595-SN74AUP3G07DCUR; Supplier 2: Digi-Key; Supplier Part Number 2: 296-25594-2-ND; Supplier 3: Digi-Key; Supplier Part Number 3: 296-25594-1-ND; Supplier 4: Digi-Key; Supplier Part Number 4: 296-25594-6-ND; Input Type: CMOS; Operating Temperature Range(C): -40 to 85; 3-State Output: No; ComponentLink1Description: Manufacturer URL; ComponentLink1URL: http://www.ti.com/; ComponentLink2Description: Datasheet; ComponentLink2URL: http://www.ti.com/lit/ds/symlink/sn74aup3g07.pdf
footprint DCU0008A_N (SOP, 8-Leads, Body 2.4x2.1mm, Pitch 0.5mm, IPC Medium Density)
footprint DCU0008A_M (SOP, 8-Leads, Body 2.4x2.1mm, Pitch 0.5mm, IPC Low Density)
footprint DCU0008A_L (SOP, 8-Leads, Body 2.4x2.1mm, Pitch 0.5mm, IPC High Density)
part A pins: 1 1A (in), 7 1Y (oc)
part B pins: 3 2A (in), 5 2Y (oc)
part C pins: 2 3Y (oc), 6 3A (in)
part D pins: 4 GND (power), 8 VCC (power)

## SN74AUP3G07DQER
designator U?
Low-Power Triple Inverter Buffer/Driver With Open-Drain Outputs, DQE0008A, LARGE T&R; Generic Part Number: SN74AUP3G07; Manufacturer: Texas Instruments; PartNumber: SN74AUP3G07DQER; VCC(Min)(V): 0.8; VCC(Max)(V): 3.6; Output Type: CMOS; ICC @ Nom Voltage(Max)(mA): 0.0009; Bits(#): 3; F @ Nom Voltage(Max)(Mhz): 100; Rating: Catalog; Technology Family: AUP; Voltage(Nom)(V): 0.8,1.2,1.5,1.8,2.5,3.3; Schmitt Trigger: No; Output Drive (IOL/IOH)(Max)(mA): 20/-20; tpd @ Nom Voltage(Max)(ns): 26.5,14.4,12.3,9.7,6.7,9.7; Logic: True; Sub-Family: Non-Inverting Buffer/Driver; DatasheetVersion: SCES780C; PackageReference: DQE0008A; Supplier 1: Mouser; Supplier Part Number 1: 595-SN74AUP3G07DQER; Supplier 2: Digi-Key; Supplier Part Number 2: 296-25623-2-ND; Supplier 3: Digi-Key; Supplier Part Number 3: 296-25623-1-ND; Supplier 4: Digi-Key; Supplier Part Number 4: 296-25623-6-ND; Input Type: CMOS; Operating Temperature Range(C): -40 to 85; 3-State Output: No; ComponentLink1Description: Manufacturer URL; ComponentLink1URL: http://www.ti.com/; ComponentLink2Description: Datasheet; ComponentLink2URL: http://www.ti.com/lit/ds/symlink/sn74aup3g07.pdf
footprint DQE0008A_V (SON, 8-Leads, Body 1.4x1mm, Pitch 0.35mm, TI Recommend)
part A pins: 1 1A (in), 7 1Y (oc)
part B pins: 3 2A (in), 5 2Y (oc)
part C pins: 2 3Y (oc), 6 3A (in)
part D pins: 4 GND (power), 8 VCC (power)

## SN74AUP3G07RSER
designator U?
Low-Power Triple Inverter Buffer/Driver With Open-Drain Outputs, RSE0008A, LARGE T&R; Generic Part Number: SN74AUP3G07; Manufacturer: Texas Instruments; PartNumber: SN74AUP3G07RSER; VCC(Min)(V): 0.8; VCC(Max)(V): 3.6; Output Type: CMOS; ICC @ Nom Voltage(Max)(mA): 0.0009; Bits(#): 3; F @ Nom Voltage(Max)(Mhz): 100; Rating: Catalog; Technology Family: AUP; Voltage(Nom)(V): 0.8,1.2,1.5,1.8,2.5,3.3; Schmitt Trigger: No; Output Drive (IOL/IOH)(Max)(mA): 20/-20; tpd @ Nom Voltage(Max)(ns): 26.5,14.4,12.3,9.7,6.7,9.7; Logic: True; Sub-Family: Non-Inverting Buffer/Driver; DatasheetVersion: SCES780C; PackageReference: RSE0008A; Supplier 1: Mouser; Supplier Part Number 1: 595-SN74AUP3G07RSER; Supplier 2: Digi-Key; Supplier Part Number 2: 296-27500-2-ND; Supplier 3: Digi-Key; Supplier Part Number 3: 296-27500-1-ND; Supplier 4: Digi-Key; Supplier Part Number 4: 296-27500-6-ND; Input Type: CMOS; Operating Temperature Range(C): -40 to 85; 3-State Output: No; ComponentLink1Description: Manufacturer URL; ComponentLink1URL: http://www.ti.com/; ComponentLink2Description: Datasheet; ComponentLink2URL: http://www.ti.com/lit/ds/symlink/sn74aup3g07.pdf
footprint RSE0008A_V (QFN, 8-Leads, Body 1.5x1.5mm, Pitch 0.5mm, TI Recommend)
part A pins: 1 1Y (oc), 7 1A (in)
part B pins: 3 2Y (oc), 5 2A (in)
part C pins: 2 3A (in), 6 3Y (oc)
part D pins: 4 GND (power), 8 VCC (power)

## SN74AUP3G07YFPR
designator U?
Low-Power Triple Inverter Buffer/Driver With Open-Drain Outputs, YZP0008AAAA, LARGE T&R; Generic Part Number: SN74AUP3G07; Manufacturer: Texas Instruments; PartNumber: SN74AUP3G07YFPR; VCC(Min)(V): 0.8; VCC(Max)(V): 3.6; Output Type: CMOS; ICC @ Nom Voltage(Max)(mA): 0.0009; Bits(#): 3; F @ Nom Voltage(Max)(Mhz): 100; Rating: Catalog; Technology Family: AUP; Voltage(Nom)(V): 0.8,1.2,1.5,1.8,2.5,3.3; Schmitt Trigger: No; Output Drive (IOL/IOH)(Max)(mA): 20/-20; tpd @ Nom Voltage(Max)(ns): 26.5,14.4,12.3,9.7,6.7,9.7; Logic: True; Sub-Family: Non-Inverting Buffer/Driver; DatasheetVersion: SCES780C; PackageReference: YZP0008AAAA; Supplier 1: Mouser; Supplier Part Number 1: 595-SN74AUP3G07YFPR; Supplier 2: Digi-Key; Supplier Part Number 2: 296-25878-2-ND; Supplier 3: Digi-Key; Supplier Part Number 3: 296-25878-1-ND; Supplier 4: Digi-Key; Supplier Part Number 4: 296-25878-6-ND; Input Type: CMOS; Operating Temperature Range(C): -40 to 85; 3-State Output: No; ComponentLink1Description: Manufacturer URL; ComponentLink1URL: http://www.ti.com/; ComponentLink2Description: Datasheet; ComponentLink2URL: http://www.ti.com/lit/ds/symlink/sn74aup3g07.pdf
footprint YZP0008AAAA (BGA, 8-Balls, Body 1.56x0.76mm, Pitch 0.4mm)
part A pins: A1 1A (in), B2 1Y (oc)
part B pins: C1 2A (in), D2 2Y (oc)
part C pins: B1 3Y (oc), C2 3A (in)
part D pins: A2 VCC (power), D1 GND (power)

## SN74AUP3G14DCUR
designator U?
Low-Power Triple Schmitt-Trigger Inverter, DCU0008A, LARGE T&R; Generic Part Number: SN74AUP3G14; Manufacturer: Texas Instruments; PartNumber: SN74AUP3G14DCUR; VCC(Min)(V): 0.8; VCC(Max)(V): 3.6; Output Type: CMOS; ICC @ Nom Voltage(Max)(mA): 0.0009; Bits(#): 3; F @ Nom Voltage(Max)(Mhz): 100; Rating: Catalog; Technology Family: AUP; Voltage(Nom)(V): 0.8,1.2,1.5,1.8,2.5,3.3; Schmitt Trigger: Yes; Output Drive (IOL/IOH)(Max)(mA): 20/-20; tpd @ Nom Voltage(Max)(ns): 32.8,20.9,14.2,11,7.6,6.2; Logic: Inverting; Sub-Family: Inverting Buffer/Driver; 3-State Output: No; DatasheetVersion: SCES764D; PackageReference: DCU0008A; Supplier 1: Mouser; Supplier Part Number 1: 595-SN74AUP3G14DCUR; Supplier 2: Digi-Key; Supplier Part Number 2: 296-36972-2-ND; Supplier 3: Digi-Key; Supplier Part Number 3: 296-36972-1-ND; Supplier 4: Digi-Key; Supplier Part Number 4: 296-36972-6-ND; Input Type: CMOS; Operating Temperature Range(C): -40 to 85; ComponentLink1Description: Manufacturer URL; ComponentLink1URL: http://www.ti.com/; ComponentLink2Description: Datasheet; ComponentLink2URL: http://www.ti.com/lit/ds/symlink/sn74aup3g14.pdf
footprint DCU0008A_N (SOP, 8-Leads, Body 2.4x2.1mm, Pitch 0.5mm, IPC Medium Density)
footprint DCU0008A_M (SOP, 8-Leads, Body 2.4x2.1mm, Pitch 0.5mm, IPC Low Density)
footprint DCU0008A_L (SOP, 8-Leads, Body 2.4x2.1mm, Pitch 0.5mm, IPC High Density)
part A pins: 1 1A (in), 7 1Y (out)
part B pins: 3 2A (in), 5 2Y (out)
part C pins: 2 3Y (out), 6 3A (in)
part D pins: 4 GND (power), 8 VCC (power)

## SN74AUP3G14DQER
designator U?
Low-Power Triple Schmitt-Trigger Inverter, DQE0008A, LARGE T&R; Generic Part Number: SN74AUP3G14; Manufacturer: Texas Instruments; PartNumber: SN74AUP3G14DQER; VCC(Min)(V): 0.8; VCC(Max)(V): 3.6; Output Type: CMOS; ICC @ Nom Voltage(Max)(mA): 0.0009; Bits(#): 3; F @ Nom Voltage(Max)(Mhz): 100; Rating: Catalog; Technology Family: AUP; Voltage(Nom)(V): 0.8,1.2,1.5,1.8,2.5,3.3; Schmitt Trigger: Yes; Output Drive (IOL/IOH)(Max)(mA): 20/-20; tpd @ Nom Voltage(Max)(ns): 32.8,20.9,14.2,11,7.6,6.2; Logic: Inverting; Sub-Family: Inverting Buffer/Driver; 3-State Output: No; DatasheetVersion: SCES764D; PackageReference: DQE0008A; Supplier 1: Mouser; Supplier Part Number 1: 595-SN74AUP3G14DQER; Supplier 2: Digi-Key; Supplier Part Number 2: 296-25624-2-ND; Supplier 3: Digi-Key; Supplier Part Number 3: 296-25624-1-ND; Supplier 4: Digi-Key; Supplier Part Number 4: 296-25624-6-ND; Input Type: CMOS; Operating Temperature Range(C): -40 to 85; ComponentLink1Description: Manufacturer URL; ComponentLink1URL: http://www.ti.com/; ComponentLink2Description: Datasheet; ComponentLink2URL: http://www.ti.com/lit/ds/symlink/sn74aup3g14.pdf
footprint DQE0008A_V (SON, 8-Leads, Body 1.4x1mm, Pitch 0.35mm, TI Recommend)
part A pins: 1 1A (in), 7 1Y (out)
part B pins: 3 2A (in), 5 2Y (out)
part C pins: 2 3Y (out), 6 3A (in)
part D pins: 4 GND (power), 8 VCC (power)

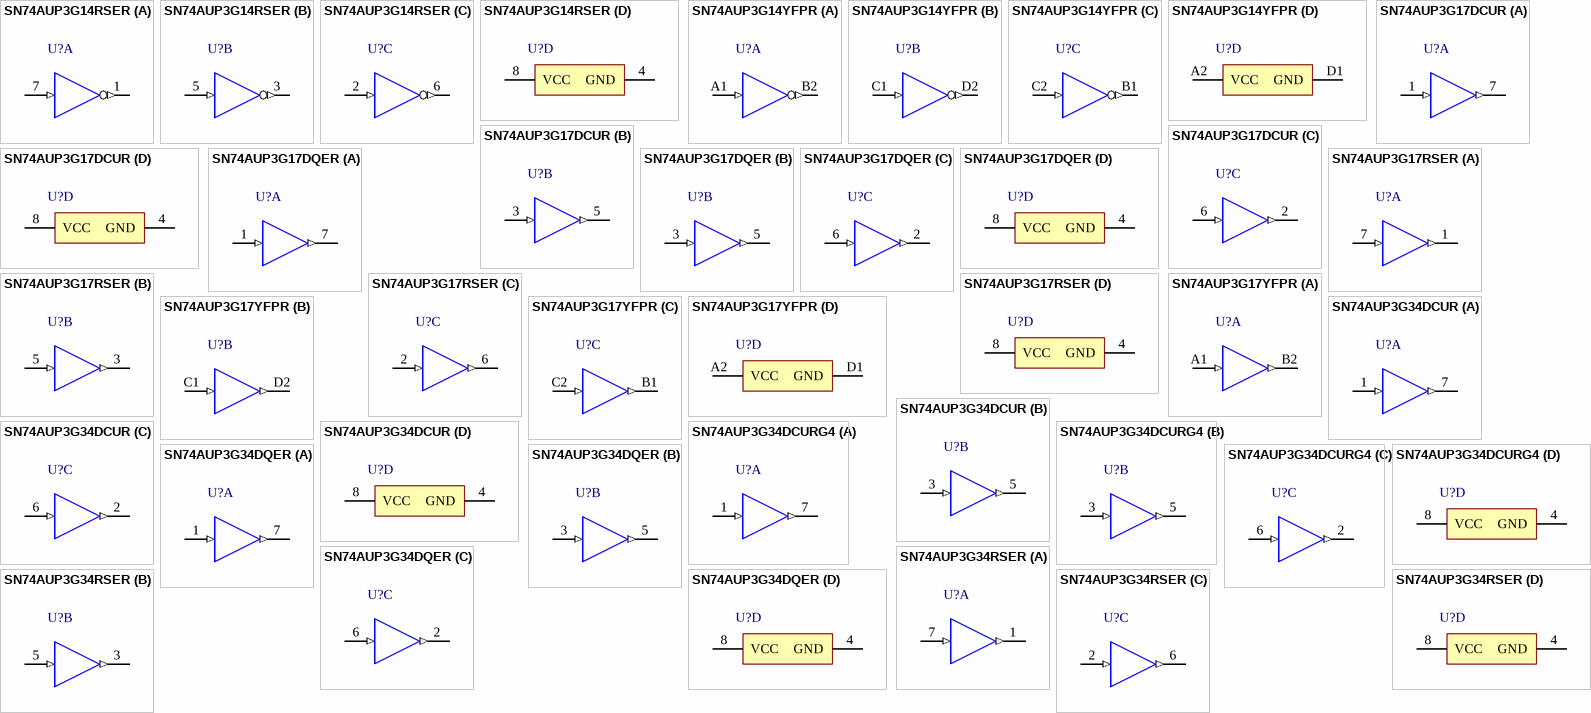
[diagram p30: symbols SN74AUP3G14RSER to SN74AUP3G34RSER]

## SN74AUP3G14RSER
designator U?
Low-Power Triple Schmitt-Trigger Inverter, RSE0008A, LARGE T&R; Generic Part Number: SN74AUP3G14; Manufacturer: Texas Instruments; PartNumber: SN74AUP3G14RSER; VCC(Min)(V): 0.8; VCC(Max)(V): 3.6; Output Type: CMOS; ICC @ Nom Voltage(Max)(mA): 0.0009; Bits(#): 3; F @ Nom Voltage(Max)(Mhz): 100; Rating: Catalog; Technology Family: AUP; Voltage(Nom)(V): 0.8,1.2,1.5,1.8,2.5,3.3; Schmitt Trigger: Yes; Output Drive (IOL/IOH)(Max)(mA): 20/-20; tpd @ Nom Voltage(Max)(ns): 32.8,20.9,14.2,11,7.6,6.2; Logic: Inverting; Sub-Family: Inverting Buffer/Driver; 3-State Output: No; DatasheetVersion: SCES764D; PackageReference: RSE0008A; Supplier 1: Mouser; Supplier Part Number 1: 595-SN74AUP3G14RSER; Supplier 2: Digi-Key; Supplier Part Number 2: 296-27501-2-ND; Supplier 3: Digi-Key; Supplier Part Number 3: 296-27501-1-ND; Supplier 4: Digi-Key; Supplier Part Number 4: 296-27501-6-ND; Input Type: CMOS; Operating Temperature Range(C): -40 to 85; ComponentLink1Description: Manufacturer URL; ComponentLink1URL: http://www.ti.com/; ComponentLink2Description: Datasheet; ComponentLink2URL: http://www.ti.com/lit/ds/symlink/sn74aup3g14.pdf
footprint RSE0008A_V (QFN, 8-Leads, Body 1.5x1.5mm, Pitch 0.5mm, TI Recommend)
part A pins: 1 1Y (out), 7 1A (in)
part B pins: 3 2Y (out), 5 2A (in)
part C pins: 2 3A (in), 6 3Y (out)
part D pins: 4 GND (power), 8 VCC (power)

## SN74AUP3G14YFPR
designator U?
Low-Power Triple Schmitt-Trigger Inverter, YZP0008AAAA, LARGE T&R; Generic Part Number: SN74AUP3G14; Manufacturer: Texas Instruments; PartNumber: SN74AUP3G14YFPR; VCC(Min)(V): 0.8; VCC(Max)(V): 3.6; Output Type: CMOS; ICC @ Nom Voltage(Max)(mA): 0.0009; Bits(#): 3; F @ Nom Voltage(Max)(Mhz): 100; Rating: Catalog; Technology Family: AUP; Voltage(Nom)(V): 0.8,1.2,1.5,1.8,2.5,3.3; Schmitt Trigger: Yes; Output Drive (IOL/IOH)(Max)(mA): 20/-20; tpd @ Nom Voltage(Max)(ns): 32.8,20.9,14.2,11,7.6,6.2; Logic: Inverting; Sub-Family: Inverting Buffer/Driver; 3-State Output: No; DatasheetVersion: SCES764D; PackageReference: YZP0008AAAA; Supplier 1: Mouser; Supplier Part Number 1: 595-SN74AUP3G14YFPR; Supplier 2: Digi-Key; Supplier Part Number 2: 296-25211-2-ND; Supplier 3: Digi-Key; Supplier Part Number 3: 296-25211-1-ND; Supplier 4: Digi-Key; Supplier Part Number 4: 296-25211-6-ND; Input Type: CMOS; Operating Temperature Range(C): -40 to 85; ComponentLink1Description: Manufacturer URL; ComponentLink1URL: http://www.ti.com/; ComponentLink2Description: Datasheet; ComponentLink2URL: http://www.ti.com/lit/ds/symlink/sn74aup3g14.pdf
footprint YZP0008AAAA (BGA, 8-Balls, Body 1.56x0.76mm, Pitch 0.4mm)
part A pins: A1 1A (in), B2 1Y (out)
part B pins: C1 2A (in), D2 2Y (out)
part C pins: B1 3Y (out), C2 3A (in)
part D pins: A2 VCC (power), D1 GND (power)

## SN74AUP3G17DCUR
designator U?
Low-Power Triple Schmitt-Trigger Buffer, DCU0008A, LARGE T&R; Generic Part Number: SN74AUP3G17; Manufacturer: Texas Instruments; PartNumber: SN74AUP3G17DCUR; VCC(Min)(V): 0.8; VCC(Max)(V): 3.6; Output Type: CMOS; ICC @ Nom Voltage(Max)(mA): 0.0009; Bits(#): 3; F @ Nom Voltage(Max)(Mhz): 100; Rating: Catalog; Technology Family: AUP; Voltage(Nom)(V): 0.8,1.2,1.5,1.8,2.5,3.3; Schmitt Trigger: Yes; Output Drive (IOL/IOH)(Max)(mA): 20/-20; tpd @ Nom Voltage(Max)(ns): 35.1,18.1,12.9,11,8.1,6.9; Logic: True; Sub-Family: Non-Inverting Buffer/Driver; 3-State Output: No; DatasheetVersion: SCES765C; PackageReference: DCU0008A; Supplier 1: Mouser; Supplier Part Number 1: 595-SN74AUP3G17DCUR; Supplier 2: Digi-Key; Supplier Part Number 2: 296-25596-2-ND; Supplier 3: Digi-Key; Supplier Part Number 3: 296-25596-1-ND; Supplier 4: Digi-Key; Supplier Part Number 4: 296-25596-6-ND; Input Type: CMOS; Operating Temperature Range(C): -40 to 85; ComponentLink1Description: Manufacturer URL; ComponentLink1URL: http://www.ti.com/; ComponentLink2Description: Datasheet; ComponentLink2URL: http://www.ti.com/lit/ds/symlink/sn74aup3g17.pdf
footprint DCU0008A_N (SOP, 8-Leads, Body 2.4x2.1mm, Pitch 0.5mm, IPC Medium Density)
footprint DCU0008A_M (SOP, 8-Leads, Body 2.4x2.1mm, Pitch 0.5mm, IPC Low Density)
footprint DCU0008A_L (SOP, 8-Leads, Body 2.4x2.1mm, Pitch 0.5mm, IPC High Density)
part A pins: 1 1A (in), 7 1Y (out)
part B pins: 3 2A (in), 5 2Y (out)
part C pins: 2 3Y (out), 6 3A (in)
part D pins: 4 GND (power), 8 VCC (power)

## SN74AUP3G17DQER
designator U?
Low-Power Triple Schmitt-Trigger Buffer, DQE0008A, LARGE T&R; Generic Part Number: SN74AUP3G17; Manufacturer: Texas Instruments; PartNumber: SN74AUP3G17DQER; VCC(Min)(V): 0.8; VCC(Max)(V): 3.6; Output Type: CMOS; ICC @ Nom Voltage(Max)(mA): 0.0009; Bits(#): 3; F @ Nom Voltage(Max)(Mhz): 100; Rating: Catalog; Technology Family: AUP; Voltage(Nom)(V): 0.8,1.2,1.5,1.8,2.5,3.3; Schmitt Trigger: Yes; Output Drive (IOL/IOH)(Max)(mA): 20/-20; tpd @ Nom Voltage(Max)(ns): 35.1,18.1,12.9,11,8.1,6.9; Logic: True; Sub-Family: Non-Inverting Buffer/Driver; 3-State Output: No; DatasheetVersion: SCES765C; PackageReference: DQE0008A; Supplier 1: Mouser; Supplier Part Number 1: 595-SN74AUP3G17DQER; Supplier 2: Digi-Key; Supplier Part Number 2: 296-32276-2-ND; Supplier 3: Digi-Key; Supplier Part Number 3: 296-32276-1-ND; Supplier 4: Digi-Key; Supplier Part Number 4: 296-32276-6-ND; Input Type: CMOS; Operating Temperature Range(C): -40 to 85; ComponentLink1Description: Manufacturer URL; ComponentLink1URL: http://www.ti.com/; ComponentLink2Description: Datasheet; ComponentLink2URL: http://www.ti.com/lit/ds/symlink/sn74aup3g17.pdf
footprint DQE0008A_V (SON, 8-Leads, Body 1.4x1mm, Pitch 0.35mm, TI Recommend)
part A pins: 1 1A (in), 7 1Y (out)
part B pins: 3 2A (in), 5 2Y (out)
part C pins: 2 3Y (out), 6 3A (in)
part D pins: 4 GND (power), 8 VCC (power)

## SN74AUP3G17RSER
designator U?
Low-Power Triple Schmitt-Trigger Buffer, RSE0008A, LARGE T&R; Generic Part Number: SN74AUP3G17; Manufacturer: Texas Instruments; PartNumber: SN74AUP3G17RSER; VCC(Min)(V): 0.8; VCC(Max)(V): 3.6; Output Type: CMOS; ICC @ Nom Voltage(Max)(mA): 0.0009; Bits(#): 3; F @ Nom Voltage(Max)(Mhz): 100; Rating: Catalog; Technology Family: AUP; Voltage(Nom)(V): 0.8,1.2,1.5,1.8,2.5,3.3; Schmitt Trigger: Yes; Output Drive (IOL/IOH)(Max)(mA): 20/-20; tpd @ Nom Voltage(Max)(ns): 35.1,18.1,12.9,11,8.1,6.9; Logic: True; Sub-Family: Non-Inverting Buffer/Driver; 3-State Output: No; DatasheetVersion: SCES765C; PackageReference: RSE0008A; Supplier 1: Mouser; Supplier Part Number 1: 595-SN74AUP3G17RSER; Supplier 2: Digi-Key; Supplier Part Number 2: 296-27502-2-ND; Supplier 3: Digi-Key; Supplier Part Number 3: 296-27502-1-ND; Supplier 4: Digi-Key; Supplier Part Number 4: 296-27502-6-ND; Input Type: CMOS; Operating Temperature Range(C): -40 to 85; ComponentLink1Description: Manufacturer URL; ComponentLink1URL: http://www.ti.com/; ComponentLink2Description: Datasheet; ComponentLink2URL: http://www.ti.com/lit/ds/symlink/sn74aup3g17.pdf
footprint RSE0008A_V (QFN, 8-Leads, Body 1.5x1.5mm, Pitch 0.5mm, TI Recommend)
part A pins: 1 1Y (out), 7 1A (in)
part B pins: 3 2Y (out), 5 2A (in)
part C pins: 2 3A (in), 6 3Y (out)
part D pins: 4 GND (power), 8 VCC (power)

## SN74AUP3G17YFPR
designator U?
Low-Power Triple Schmitt-Trigger Buffer, YZP0008AAAA, LARGE T&R; Generic Part Number: SN74AUP3G17; Manufacturer: Texas Instruments; PartNumber: SN74AUP3G17YFPR; VCC(Min)(V): 0.8; VCC(Max)(V): 3.6; Output Type: CMOS; ICC @ Nom Voltage(Max)(mA): 0.0009; Bits(#): 3; F @ Nom Voltage(Max)(Mhz): 100; Rating: Catalog; Technology Family: AUP; Voltage(Nom)(V): 0.8,1.2,1.5,1.8,2.5,3.3; Schmitt Trigger: Yes; Output Drive (IOL/IOH)(Max)(mA): 20/-20; tpd @ Nom Voltage(Max)(ns): 35.1,18.1,12.9,11,8.1,6.9; Logic: True; Sub-Family: Non-Inverting Buffer/Driver; 3-State Output: No; DatasheetVersion: SCES765C; PackageReference: YZP0008AAAA; Supplier 1: Mouser; Supplier Part Number 1: 595-SN74AUP3G17YFPR; Supplier 2: Digi-Key; Supplier Part Number 2: 296-25879-2-ND; Supplier 3: Digi-Key; Supplier Part Number 3: 296-25879-1-ND; Supplier 4: Digi-Key; Supplier Part Number 4: 296-25879-6-ND; Input Type: CMOS; Operating Temperature Range(C): -40 to 85; ComponentLink1Description: Manufacturer URL; ComponentLink1URL: http://www.ti.com/; ComponentLink2Description: Datasheet; ComponentLink2URL: http://www.ti.com/lit/ds/symlink/sn74aup3g17.pdf
footprint YZP0008AAAA (BGA, 8-Balls, Body 1.56x0.76mm, Pitch 0.4mm)
part A pins: A1 1A (in), B2 1Y (out)
part B pins: C1 2A (in), D2 2Y (out)
part C pins: B1 3Y (out), C2 3A (in)
part D pins: A2 VCC (power), D1 GND (power)